# Altium integrated library maxim.IntLib: 2 symbols
Pins are listed as number, name and electrical type; pins without a type are passive.

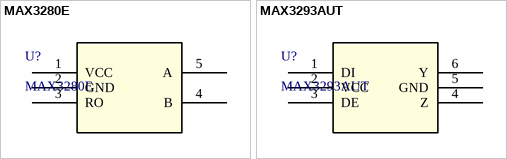
[diagram p0: symbols MAX3280E to MAX3293AUT]

## MAX3280E
designator U?
Manufacturer_Part_Number: MAX3293AUT+; Vendor: Maxim Integrated Products; Built_By: EMA_UL_Team; SourceLibrary: Maxim_2014-05-21; Revision: 1; Copyright: Copyright (C) 2018 Accelerated Designs. All rights reserved; RefDes: RefDes; Type: DEV
footprint SOT23-5
pins: 1 VCC, 2 GND (power), 3 RO, 4 B, 5 A (power)

## MAX3293AUT
designator U?
Manufacturer_Part_Number: MAX3293AUT+; Vendor: Maxim Integrated Products; Built_By: EMA_UL_Team; SourceLibrary: Maxim_2014-05-21; Revision: 1; Copyright: Copyright (C) 2018 Accelerated Designs. All rights reserved; RefDes: RefDes; Type: DEV
footprint SOT23-6
pins: 1 DI, 2 VCC (power), 3 DE, 4 Z, 5 GND (power), 6 Y